# Altium footprint library capacitor.PcbLib: 22 footprints (part 2 of 2)
Each footprint in its own frame and in the unit in brackets; x right, y up, seen from the top. Pads: shape width x height; smd on the part's side, far side on the other; paste and mask are expansions set on the pad; w line width, h text height; cw(c..) or ccw(c..) is an arc to the next point about the centre after c.
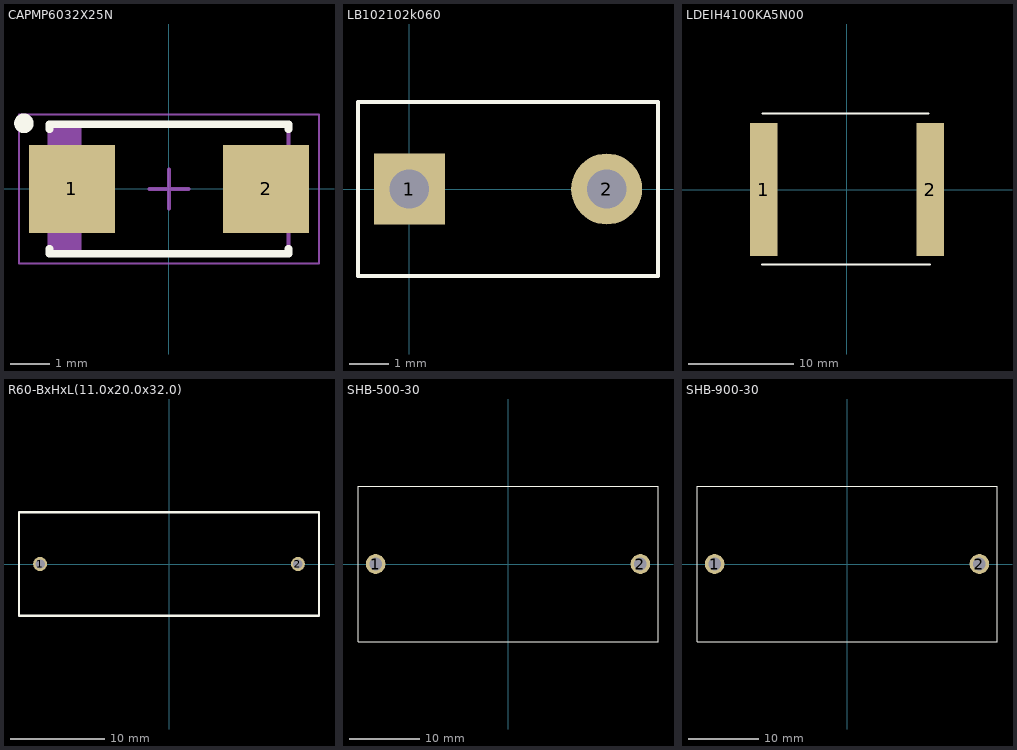
[diagram p1: the footprints below, top view; thin cyan lines are the x and y axes]

## CAPMP6032X25N [mm] "Molded Capacitor, 2-Leads, Body 6.00x3.20mm, IPC Medium Density"
height 2.5
pads (2):
  rect 2.2x2.25 smd: 1(-2.475,0) 2(2.475,0)
Top Overlay:
  circle w0.25: c-3.7,1.675 r0.125
  lines w0.2: -3.05,-1.525 -3.05,-1.65 3.05,-1.65 3.05,-1.525 ; -3.05,1.525 -3.05,1.65 3.05,1.65 3.05,1.525
Mechanical 13:
  rectangle: -3.05,-1.65 -2.23,1.65
  lines w0.1: -3.05,-1.65 3.05,-1.65 3.05,1.65 -3.05,1.65 -3.05,-1.65
Mechanical 15:
  lines w0.05: -3.825,-1.9 3.825,-1.9 3.825,1.9 -3.825,1.9 -3.825,-1.9
  lines w0.1: -0.5,0 0.5,0 ; 0,-0.5 0,0.5
3D body "593D C(6032)-CASE.stp": height 2.58, standoff 0.04, extent -2.999,-1.7 3.199,1.653

## LB102102k060 [mm]
pads (2):
  rect 1.8x1.8 hole 1: 1(0,0)
  round 1.8 hole 1: 2(5,0)
Top Overlay:
  lines w0.1: -1.3,-2.2 6.3,-2.2 6.3,2.2 5.5,2.2 -1.3,2.2 -1.3,0 -1.3,-2.2

## LDEIH4100KA5N00 [mm] "EIA6054-13.7x15.5mmm"
height 2.5
pads (2):
  rect 2.6x12.6 smd: 1(-7.9,0) 2(7.9,0)
Top Overlay:
  lines w0.2: -8.04,-7.09 7.85,-7.1 ; -8,7.2 7.7,7.2
3D body "LDEIH4100KA5N00.step": height 4.59, standoff -0.01, extent -8.05,-7.1 7.85,7.1

## R60-BxHxL(11.0x20.0x32.0) [mm] "R60-BxHxL-11.0x20.0x32.0, 27.5mm Pitch"
height 20
pads (2):
  round 1.5 hole 1: 1(-13.75,0) 2(13.75,0)
Top Overlay:
  lines w0.254: -16,-5.5 16,-5.5 16,5.5 -16,5.5 -16,-5.5
3D body "R60DR5220AA40K.step": height 20.1, standoff -6, extent -16.15,-5.6 16.15,5.605

## SHB-500-30 [mm] "42.5*22*30 - 37.5mm Pitch"
pads (2):
  round 2.8 hole 1.8: 1(-18.75,0) 2(18.75,0)
Top Overlay:
  lines w0.1: -21.25,-11 21.25,-11 21.25,11 -21.25,11 -21.25,-11
3D body: height 30, standoff 0, extent -21,-11 21,11

## SHB-900-30 [mm] "42.5 22 30 - 37.5mm Pitch"
pads (2):
  round 2.8 hole 1.8: 1(-18.75,0) 2(18.75,0)
Top Overlay:
  lines w0.1: -21.25,-11 -21.25,11 21.25,11 21.25,-11 -21.25,-11
3D body: height 30, standoff 0, extent -21,-11 21,11